# Altium footprint library RP132K331b-TR.PcbLib: 2 footprints
Each footprint in its own frame and in the unit in brackets; x right, y up, seen from the top. Pads: shape width x height; smd on the part's side, far side on the other; paste and mask are expansions set on the pad; w line width, h text height; cw(c..) or ccw(c..) is an arc to the next point about the centre after c.
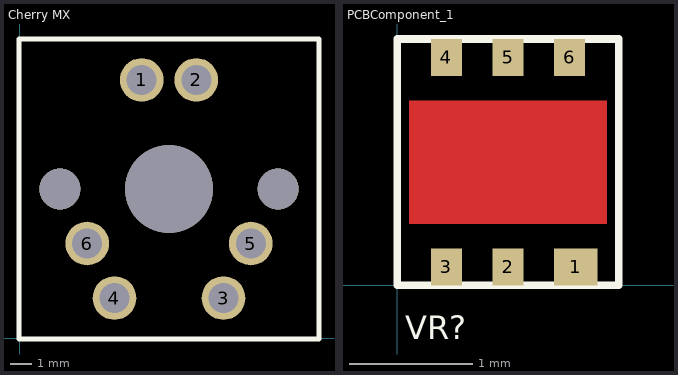
[diagram p0: the footprints below, top view; thin cyan lines are the x and y axes]

## Cherry MX [mil]
pads (9):
  round 80 hole 55: 1(224.02,473.62) 2(324.02,473.62) 3(374.02,73.62) 4(174.02,73.62) 5(424.02,173.62) 6(124.02,173.62)
  round 75 hole 75 unplated: ""(74.02,273.62) ""(474.02,273.62)
  round 161 hole 161 unplated: ""(274.02,273.62)
Top Overlay:
  lines w10: -0.98,-1.38 -0.98,548.62 549.02,548.62 549.02,273.62 549.02,-1.38 -0.98,-1.38
Bottom Overlay:
  lines w10: -0.98,-1.38 -0.98,548.62 549.02,548.62 549.02,273.62 549.02,-1.38 -0.98,-1.38
Mechanical 15:
  lines w0.1: 328.02,277.62 330.02,279.62

## PCBComponent_1 [mm]
pads (6):
  rect 0.35x0.3 smd: 1(1.45,0.15)
  rect 0.25x0.3 smd: 2(0.9,0.15) 3(0.4,0.15) 4(0.4,1.85) 5(0.9,1.85) 6(1.4,1.85)
Top Layer:
  region: 0.1,0.5 0.1,1.5 1.7,1.5 1.7,0.5
Top Overlay:
  lines w0.064: 0,0 1.8,0 1.8,2 0,2 0,0
  text "VR?" at 0.064,-0.436 h0.19